# EAGLE library part IRF_7104 (library IRF_7104)
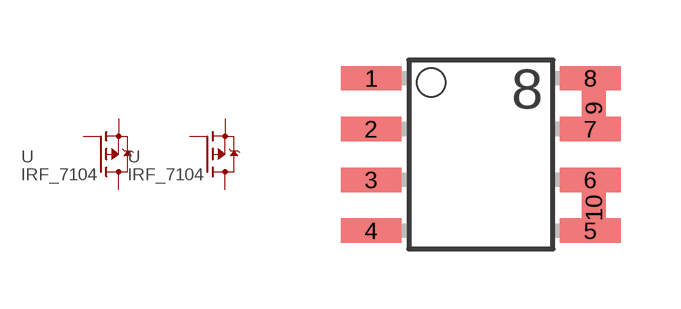
[diagram p0: symbol with the pads of SO8; footprint SO8]

Designator prefix -

## IRF_7104  [SO8]
1  S2  pas
2  G2  pas
3  S1  pas
4  G1  pas
5  D1  pas
7  D2  pas

## Footprint SO8 (pad centres in mm)
smd 1.524 x 0.61: 1 1.067,4.445; 2 1.067,3.175; 3 1.067,1.905; 4 1.067,0.635; 5 6.553,0.635; 6 6.553,1.905; 7 6.553,3.175; 8 6.553,4.445
smd 0.61 x 1.524: 9 6.635,3.703; 10 6.635,1.203